# EAGLE library part HIROSE_DF17_80 (library greghale_eib_preamp)
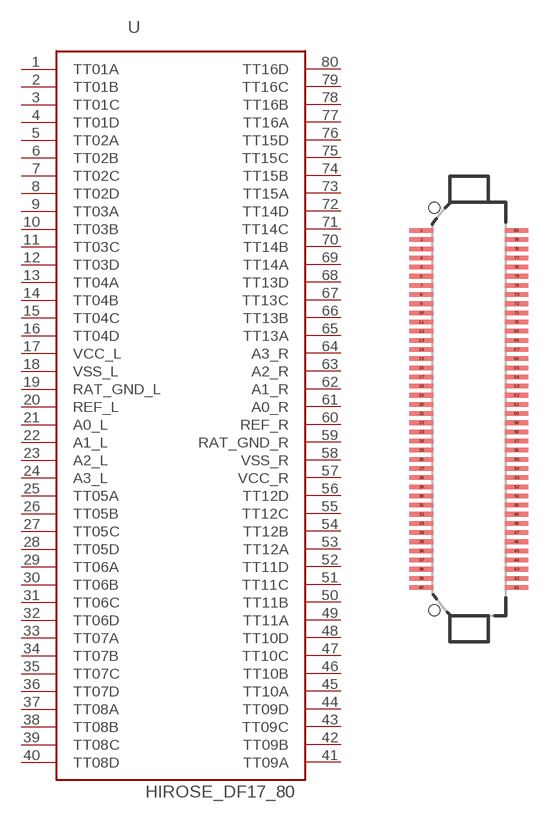
[diagram p5: symbol with the pads of HIROSE_DF17_80_TOPVIEW; footprint HIROSE_DF17_80_TOPVIEW]

Designator prefix -

## HIROSE_DF17_80TV  [HIROSE_DF17_80_TOPVIEW]
1  TT01A
2  TT01B
3  TT01C
4  TT01D
5  TT02A
6  TT02B
7  TT02C
8  TT02D
9  TT03A
10  TT03B
11  TT03C
12  TT03D
13  TT04A
14  TT04B
15  TT04C
16  TT04D
17  VCC_L
18  VSS_L  nc
19  RAT_GND_L
20  REF_L
21  A0_L
22  A1_L
23  A2_L
24  A3_L
25  TT05A
26  TT05B
27  TT05C
28  TT05D
29  TT06A
30  TT06B
31  TT06C
32  TT06D
33  TT07A
34  TT07B
35  TT07C  nc
36  TT07D
37  TT08A
38  TT08B
39  TT08C
40  TT08D
41  TT09A
42  TT09B
43  TT09C
44  TT09D
45  TT10A
46  TT10B
47  TT10C
48  TT10D
49  TT11A
50  TT11B
51  TT11C
52  TT11D
53  TT12A
54  TT12B
55  TT12C
56  TT12D
57  VCC_R
58  VSS_R
59  RAT_GND_R  nc
60  REF_R
61  A0_R
62  A1_R
63  A2_R
64  A3_R
65  TT13A
66  TT13B
67  TT13C
68  TT13D
69  TT14A
70  TT14B
71  TT14C
72  TT14D
73  TT15A
74  TT15B
75  TT15C
76  TT15D
77  TT16A
78  TT16B
79  TT16C
80  TT16D

## Footprint HIROSE_DF17_80_TOPVIEW (pad centres in mm)
smd 1.3 x 0.25: 1 -2.685,9.775; 2 -2.685,9.275; 3 -2.685,8.775; 4 -2.685,8.275; 5 -2.685,7.775; 6 -2.685,7.275; 7 -2.685,6.775; 8 -2.685,6.275; 9 -2.685,5.775; 10 -2.685,5.275; 11 -2.685,4.775; 12 -2.685,4.275; 13 -2.685,3.775; 14 -2.685,3.275; 15 -2.685,2.775; 16 -2.685,2.275; 17 -2.685,1.775; 18 -2.685,1.275; 19 -2.685,0.775; 20 -2.685,0.275; 21 -2.685,-0.225; 22 -2.685,-0.725; 23 -2.685,-1.225; 24 -2.685,-1.725; 25 -2.685,-2.225; 26 -2.685,-2.725; 27 -2.685,-3.225; 28 -2.685,-3.725; 29 -2.685,-4.225; 30 -2.685,-4.725; 31 -2.685,-5.225; 32 -2.685,-5.725; 33 -2.685,-6.225; 34 -2.685,-6.725; 35 -2.685,-7.225; 36 -2.685,-7.725; 37 -2.685,-8.225; 38 -2.685,-8.725; 39 -2.685,-9.225; 40 -2.685,-9.725; 41 2.515,-9.725; 42 2.515,-9.225; 43 2.515,-8.725; 44 2.515,-8.225; 45 2.515,-7.725; 46 2.515,-7.225; 47 2.515,-6.725; 48 2.515,-6.225; 49 2.515,-5.725; 50 2.515,-5.225; 51 2.515,-4.725; 52 2.515,-4.225; 53 2.515,-3.725; 54 2.515,-3.225; 55 2.515,-2.725; 56 2.515,-2.225; 57 2.515,-1.725; 58 2.515,-1.225; 59 2.515,-0.725; 60 2.515,-0.225; 61 2.515,0.275; 62 2.515,0.775; 63 2.515,1.275; 64 2.515,1.775; 65 2.515,2.275; 66 2.515,2.775; 67 2.515,3.275; 68 2.515,3.775; 69 2.515,4.275; 70 2.515,4.775; 71 2.515,5.275; 72 2.515,5.775; 73 2.515,6.275; 74 2.515,6.775; 75 2.515,7.275; 76 2.515,7.775; 77 2.515,8.275; 78 2.515,8.775; 79 2.515,9.275; 80 2.515,9.775
hole 0.6 at -1.985,11.025
hole 0.6 at -1.985,-10.975